# EAGLE library part RAZOR_IMU (library pcbqr)
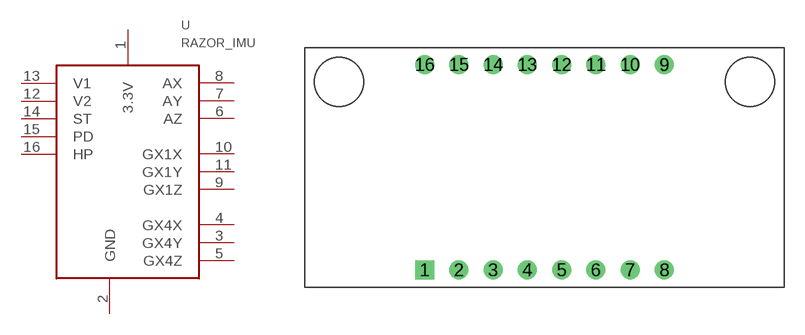
[diagram p4: symbol with the pads of RAZOR_IMU; footprint RAZOR_IMU]

Designator prefix U

## RAZOR_IMU  [RAZOR_IMU]
1  3.3V
2  GND
3  GX4Y
4  GX4X
5  GX4Z
6  AZ
7  AY
8  AX
9  GX1Z
10  GX1X
11  GX1Y
12  V2
13  V1
14  ST
15  PD
16  HP

## Footprint RAZOR_IMU (pad centres in mm)
drill 0.9 square: 1 -8.89,-7.62
drill 0.9 round: 2 -6.35,-7.62; 3 -3.81,-7.62; 4 -1.27,-7.62; 5 1.27,-7.62; 6 3.81,-7.62; 7 6.35,-7.62; 8 8.89,-7.62; 9 8.89,7.62; 10 6.35,7.62; 11 3.81,7.62; 12 1.27,7.62; 13 -1.27,7.62; 14 -3.81,7.62; 15 -6.35,7.62; 16 -8.89,7.62